# Altium footprint library DC-DC.PcbLib: 1 footprints
Each footprint in its own frame and in the unit in brackets; x right, y up, seen from the top. Pads: shape width x height; smd on the part's side, far side on the other; paste and mask are expansions set on the pad; w line width, h text height; cw(c..) or ccw(c..) is an arc to the next point about the centre after c.
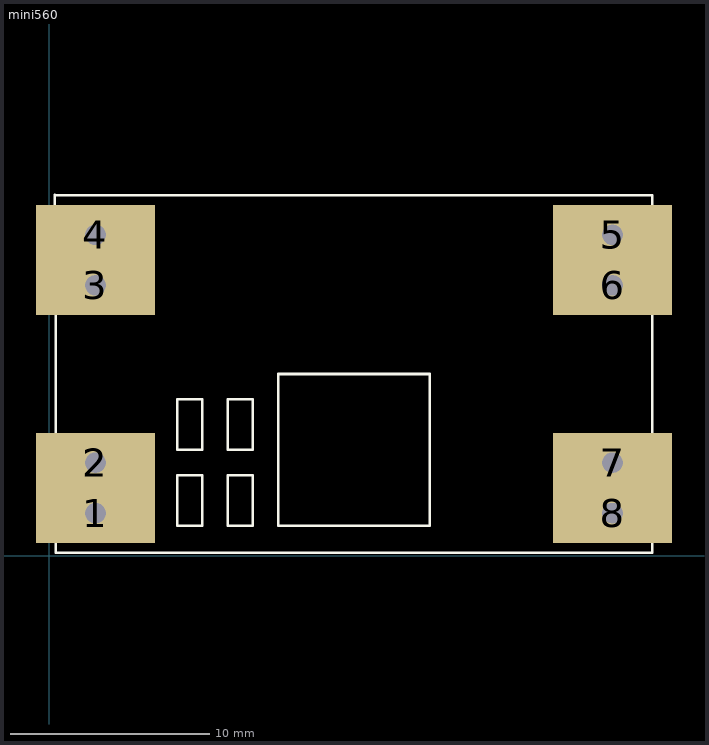
[diagram p0: the footprint, top view; thin cyan lines are the x and y axes]

## mini560 [mm]
pads (8):
  rect 6x3 hole 1.016 slot 1.021 at 0 deg paste-2539.97 mask+0.051: 1(2.318,2.135) 2(2.318,4.675) 3(2.318,13.595) 4(2.318,16.135) 5(28.318,16.135) 6(28.318,13.595) 7(28.318,4.675) 8(28.318,2.135)
Top Overlay:
  region: 28.081,16.374 28.081,15.866 28.589,15.866 28.589,16.374
  region: 28.049,4.912 28.049,4.404 28.557,4.404 28.557,4.912
  lines w0.127: 0.268,18.152 0.268,16.945 0.3,16.945 ; 0.318,18.135 30.318,18.135 30.318,16.945 ccw(c30.318,16.152) 30.318,15.358 30.318,14.405 ccw(c30.318,13.612) 30.318,12.818 30.318,5.96 30.318,5.515 ; 0.332,15.263 0.318,14.374 cw(c0.303,13.564) 0.318,12.754 0.318,5.96 0.318,5.484 cw(c0.303,4.674) 0.318,3.864 0.318,2.944 cw(c0.303,2.134) 0.318,1.324 0.318,0.88 0.318,0.135 30.318,0.135 30.318,0.88 30.318,1.388 cw(c30.318,2.182) 30.318,2.975 30.318,3.928 cw(c30.318,4.722) 30.318,5.515 ; 0.332,15.294 ccw(c0.317,16.104) 0.332,16.914 ; 3.602,0.88 3.602,5.928 ; 30.304,5.515 30.318,5.515 ; 6.428,1.515 6.428,4.055 7.698,4.055 7.698,1.515 6.428,1.515 ; 6.428,5.325 6.428,7.865 7.698,7.865 7.698,5.325 6.428,5.325 ; 8.968,1.515 10.238,1.515 10.238,4.055 8.968,4.055 8.968,1.515 ; 8.968,5.325 8.968,7.865 10.238,7.865 10.238,5.325 8.968,5.325 ; 11.508,1.515 11.508,9.135 19.128,9.135 19.128,1.515 11.508,1.515
  lines w0.152: 0.318,0.88 3.57,0.88 ; 0.318,5.96 3.57,5.96 ; 27.065,1.483 27.065,2.753 ; 30.318,0.88 27.065,0.88 27.065,5.96 30.318,5.96
  lines w0.305: 3.318,13.589 cw(c2.318,13.592) 3.318,13.595 ; 3.318,16.129 cw(c2.318,16.132) 3.318,16.135 ; 29.318,16.129 cw(c28.318,16.132) 29.318,16.135 ; 29.342,13.589 cw(c28.318,13.592) 29.342,13.595
Mechanical 15:
  region: 28.049,2.372 28.049,1.864 28.557,1.864 28.557,2.372
  region: 28.081,13.866 28.081,13.358 28.589,13.358 28.589,13.866
  region: 2.078,2.404 2.078,1.896 2.586,1.896 2.586,2.404
  region: 2.078,4.912 2.078,4.404 2.586,4.404 2.586,4.912
  region: 2.078,13.834 2.078,13.326 2.586,13.326 2.586,13.834
  region: 2.078,16.406 2.078,15.898 2.586,15.898 2.586,16.406
3D body "MINI560_light v2.step": height 5.62, standoff 0, extent 0.353,0.144 30.353,18.144